# EAGLE library part JTAG-PIV (library Xilinx)
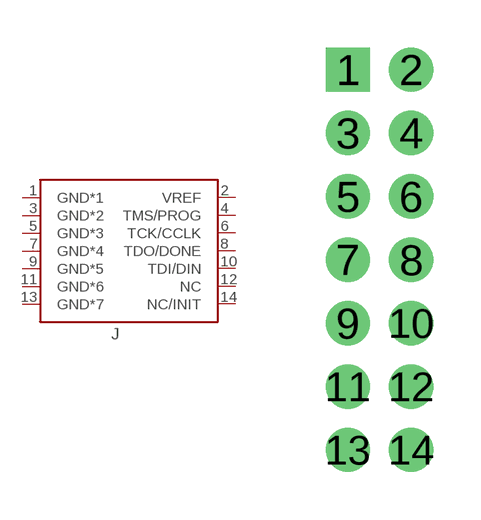
[diagram p12: symbol with the pads of H2MM_2X7; footprint H2MM_2X7]

Designator prefix J

## JTAG-PIV  [H2MM_2X7]
1  GND*1
2  VREF
3  GND*2
4  TMS/PROG
5  GND*3
6  TCK/CCLK
7  GND*4
8  TDO/DONE
9  GND*5
10  TDI/DIN
11  GND*6
12  NC
13  GND*7
14  NC/INIT

## Footprint H2MM_2X7 (pad centres in mm)
drill 0.889 square: 1 -1,6
drill 0.889 round: 2 1,6; 3 -1,4; 4 1,4; 5 -1,2; 6 1,2; 7 -1,0; 8 1,0; 9 -1,-2; 10 1,-2; 11 -1,-4; 12 1,-4; 13 -1,-6; 14 1,-6